# EAGLE library part MC14536BDWG (library ON Semiconductor_By_element14_Batch_1)
Programmable Timer
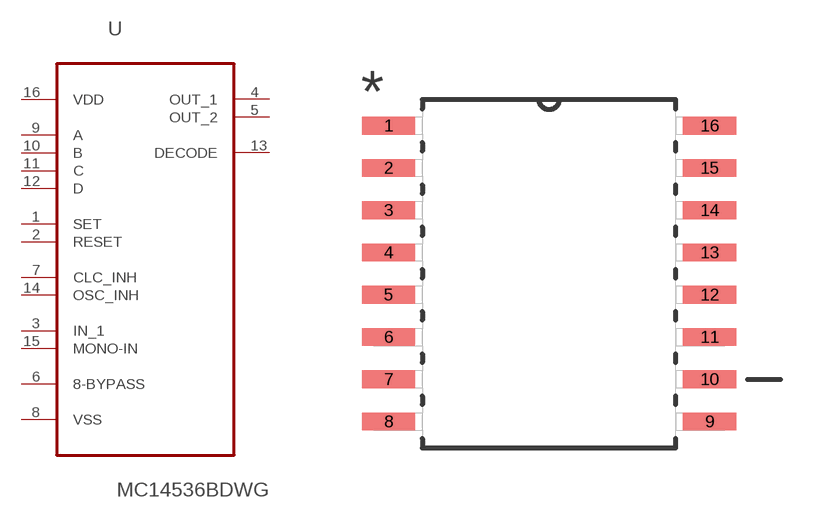
[diagram p290: symbol with the pads of SOIC127P1030X265-16N; footprint SOIC127P1030X265-16N]

Designator prefix U

## MC14536BDWG (MPN: MC14536BDWG; OC_FARNELL: 9665234; OC_NEWARK: 26K3967; PACKAGE: SOIC-16; SUPPLIER: ON SEMICONDUCTOR)  [SOIC127P1030X265-16N]
1  SET  in
2  RESET  in
3  IN_1  in
4  OUT_1  out
5  OUT_2  out
6  8-BYPASS  in
7  CLC_INH  in
8  VSS  pas
9  A  in
10  B  in
11  C  in
12  D  in
13  DECODE  out
14  OSC_INH  in
15  MONO-IN  in
16  VDD  pwr

## Footprint SOIC127P1030X265-16N (pad centres in mm)
smd 1.6 x 0.533: 1 -4.826,4.445; 2 -4.826,3.175; 3 -4.826,1.905; 4 -4.826,0.635; 5 -4.826,-0.635; 6 -4.826,-1.905; 7 -4.826,-3.175; 8 -4.826,-4.445; 9 4.826,-4.445; 10 4.826,-3.175; 11 4.826,-1.905; 12 4.826,-0.635; 13 4.826,0.635; 14 4.826,1.905; 15 4.826,3.175; 16 4.826,4.445